# Altium schematic symbol library SCH - DRIVER - LED - TI LM2753SD.SchLib: 1 symbol
Pins are listed as number, name and electrical type; pins without a type are passive.

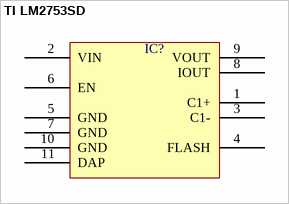
[diagram p0: symbol TI LM2753SD]

## TI LM2753SD
designator IC?  (value not drawn)
pins: 1 C1+, 2 VIN, 3 C1-, 4 FLASH, 5 GND, 6 EN, 7 GND, 8 IOUT, 9 VOUT, 10 GND, 11 DAP